# EAGLE library part SD (library SKAARHOJ)
SD MMC Card holder 4UCON part #06132 - easy to solder
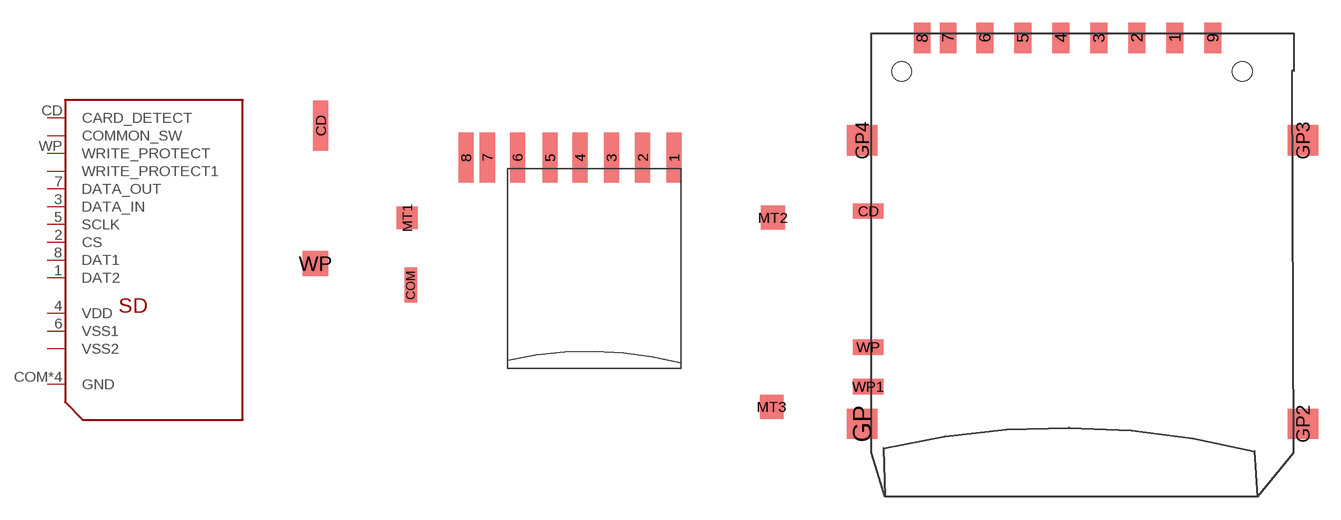
[diagram p23: symbol with the pads of SD_MICRO; footprints SD_MICRO, SD_LARGE]

Designator prefix -

## SD18650  [SD_MICRO]
1  DAT2
2  CS  in
3  DATA_IN  in
4  VDD  sup
5  SCLK  in
6  VSS1  sup
7  DATA_OUT  out
8  DAT1
CD  CARD_DETECT  pas
COM  GND  sup
MT1  GND  sup
MT2  GND  sup
MT3  GND  sup
WP  WRITE_PROTECT  pas

## SD06132  [SD_LARGE]
1  CS  in
2  DATA_IN  in
3  VSS1  sup
4  VDD  sup
5  SCLK  in
6  VSS2  sup
7  DATA_OUT  out
8  DAT1
9  DAT2
CD  CARD_DETECT  pas
GP  GND  sup
GP3  COMMON_SW  pas
WP  WRITE_PROTECT  pas
WP1  WRITE_PROTECT1  nc

## Footprint SD_MICRO (pad centres in mm)
smd 1.2 x 4: 1 6.8,0.89; 2 4.3,0.89; 3 1.8,0.89; 4 -0.7,0.89; 5 -3.1,0.89; 6 -5.7,0.89; 7 -8.1,0.89; 8 -9.8,0.89; CD -21.39,3.43
smd 1 x 2.8: COM -14.2,-9.3
smd 1.7 x 1.8: MT1 -14.5,-3.91
smd 1.9 x 1.9: MT2 14.7,-3.91; MT3 14.6,-19.01
smd 2.032 x 2.032: WP -21.82,-7.57

## Footprint SD_LARGE (pad centres in mm)
smd 1.1 x 2: 1 6.775,2.2; 2 4.275,2.2; 3 1.775,2.2; 4 -0.725,2.2; 5 -3.225,2.2; 6 -5.725,2.2; 7 -8.15,2.2; 8 -9.85,2.2; 9 9.275,2.2
smd 2 x 1: CD -13.4,-9.2; WP -13.4,-18.15; WP1 -13.4,-20.75
smd 2 x 2: GP -13.8,-23.2; GP2 15.2,-23.2; GP3 15.2,-4.55; GP4 -13.8,-4.55
hole 1.3 at -11.2,0
hole 1.3 at 11.2,0